# Altium schematic symbol library Pushbutton.SchLib: 1 symbol
Pins are listed as number, name and electrical type; pins without a type are passive.

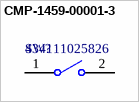
[diagram p0: symbol CMP-1459-00001-3]

## CMP-1459-00001-3
designator SW?, comment 434111025826
Switch Tactile Spst-no 0.05A 12V; Contact Current Rating: 50mA; Switch Travel: 250µm; Contact Resistance: 100mΩ; Operating Force: 260N; Throw Configuration: SPST; Mechanical Life: 30kcycles; Actuator Length: 800µm; Illumination Type: Illuminated, Non-Illuminated; Actuator Material: Liquid Crystal Polymer, Polymer; Switch Function: Off-Mom; Termination: SMD/SMT; REACH SVHC: No SVHC; Packaging: Tape and Reel; RoHS: Compliant; Contact Plating: Silver; Color: White; Insulation Resistance: 100MΩ; Current Rating: 50mA; Mount: Surface Mount; Max Operating Temperature: 85°C; Contact Material: Stainless Steel, Steel; Height: 2.5mm; Voltage Rating: 12V; Length: 7.3mm; Lead Free: Lead Free; Min Operating Temperature: -40°C
footprint 434111025826 (SMD Tact Switch, body 6x3.8mm)
pins: 1, 2